# Altium footprint library r1218.PcbLib: 1 footprints
Each footprint in its own frame and in the unit in brackets; x right, y up, seen from the top. Pads: shape width x height; smd on the part's side, far side on the other; paste and mask are expansions set on the pad; w line width, h text height; cw(c..) or ccw(c..) is an arc to the next point about the centre after c.
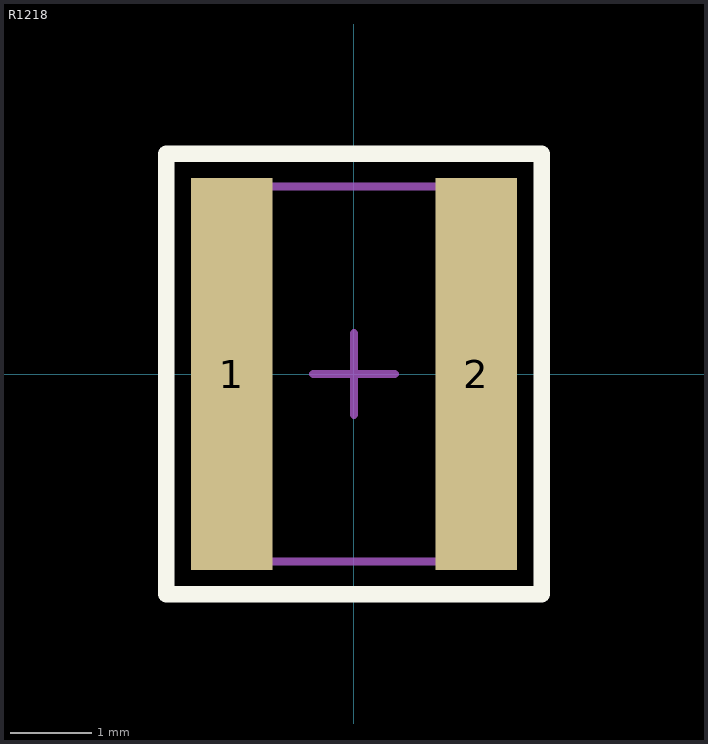
[diagram p0: the footprint, top view; thin cyan lines are the x and y axes]

## R1218 [mm] "Chip Resistor, 2-Leads, Body 4,60x3,10mm, IPC Medium Density"
height 0.65
pads (2):
  rect 1x4.8 smd: 1(-1.5,0) 2(1.5,0)
Top Overlay:
  lines w0.2: -2.3,-2.7 2.3,-2.7 2.3,2.7 -2.3,2.7 -2.3,-2.7
Top Comment:
  text ".Comment" at 0.95,2.875 h1.2
Top Designator:
  text ".Designator" at -0.625,2.875 h1.2
Top Component Outline:
  lines w0.1: -1.7,-2.3 1.7,-2.3 1.7,2.3 -1.7,2.3 -1.7,-2.3
Top Courtyard (Mech15):
  lines w0.05: -2.3,-2.7 -2.3,2.7 2.3,2.7 2.3,-2.7 -2.3,-2.7
  lines w0.1: -0.5,0 0.5,0 ; 0,-0.5 0,0.5
3D body "R1218.STEP": height 0.55, standoff 0, extent -1.6,-2.305 1.6,2.305